# EAGLE library part MC14504B (library koch)
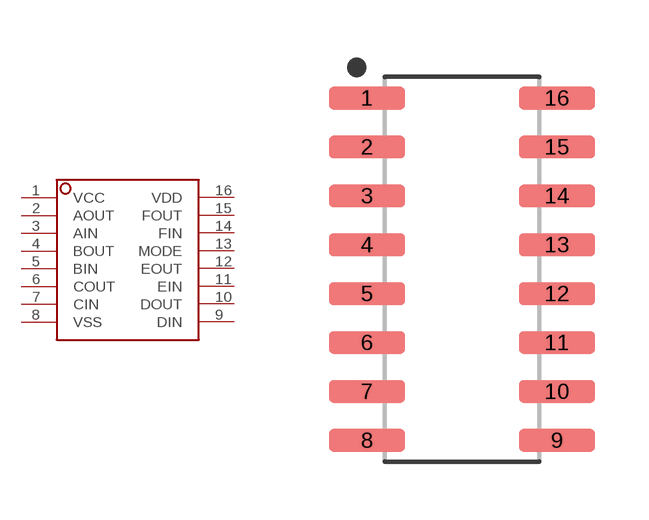
[diagram p8: symbol with the pads of SOIC127P600X175-16N; footprint SOIC127P600X175-16N]

Designator prefix -

## MC14504B  [SOIC127P600X175-16N]
1  VCC
2  AOUT
3  AIN
4  BOUT
5  BIN
6  COUT
7  CIN
8  VSS
9  DIN
10  DOUT
11  EIN
12  EOUT
13  MODE
14  FIN
15  FOUT
16  VDD

## Footprint SOIC127P600X175-16N (pad centres in mm)
16-SOIC, 1.27 mm pitch, 6.00 mm span, 9.90 X 3.90 X 1.75 mm body 16-pin SOIC package with 1.27 mm pitch, 6.00 mm span with body size 9.90 X 3.90 X 1.75 mm
smd 1.985 x 0.589: 1 -2.465,4.445; 2 -2.465,3.175; 3 -2.465,1.905; 4 -2.465,0.635; 5 -2.465,-0.635; 6 -2.465,-1.905; 7 -2.465,-3.175; 8 -2.465,-4.445; 9 2.465,-4.445; 10 2.465,-3.175; 11 2.465,-1.905; 12 2.465,-0.635; 13 2.465,0.635; 14 2.465,1.905; 15 2.465,3.175; 16 2.465,4.445